# Altium footprint library SnapEDApcb.PcbLib: 1 footprints
Each footprint in its own frame and in the unit in brackets; x right, y up, seen from the top. Pads: shape width x height; smd on the part's side, far side on the other; paste and mask are expansions set on the pad; w line width, h text height; cw(c..) or ccw(c..) is an arc to the next point about the centre after c.
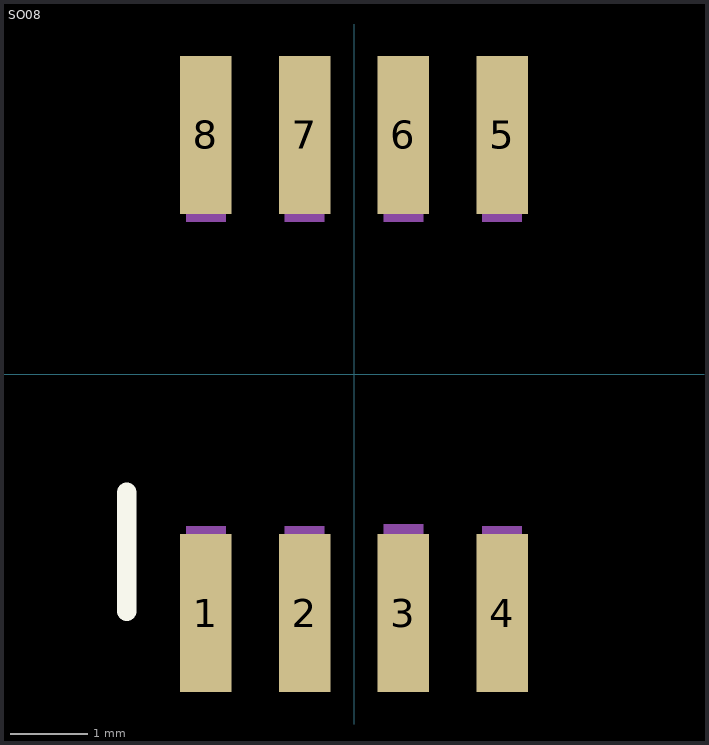
[diagram p0: the footprint, top view; thin cyan lines are the x and y axes]

## SO08 [mil]
pads (8):
  rect 26x80 smd: 1(-75,-121) 2(-25,-121) 3(25,-121) 4(75,-121) 5(75,121) 6(25,121) 7(-25,121) 8(-75,121)
Top Overlay:
  lines w10: -115,-120 -115,-60
Mechanical 13:
  region: -65,77 -85,77 -85,122 -65,122
  region: -15,77 -35,77 -35,122 -15,122
  region: 35,77 15,77 15,122 35,122
  region: 85,-122 65,-122 65,-77 85,-77
  region: 35,-121 15,-121 15,-76 35,-76
  region: -15,-122 -35,-122 -35,-77 -15,-77
  region: -65,-122 -85,-122 -85,-77 -65,-77
  region: 85,77 65,77 65,122 85,122
3D body "MAX6675.STEP": height 68.9, standoff 0, extent -96.46,-118.11 96.46,118.11